# Altium footprint library WL-SMRW.PcbLib: 5 footprints
Each footprint in its own frame and in the unit in brackets; x right, y up, seen from the top. Pads: shape width x height; smd on the part's side, far side on the other; paste and mask are expansions set on the pad; w line width, h text height; cw(c..) or ccw(c..) is an arc to the next point about the centre after c.
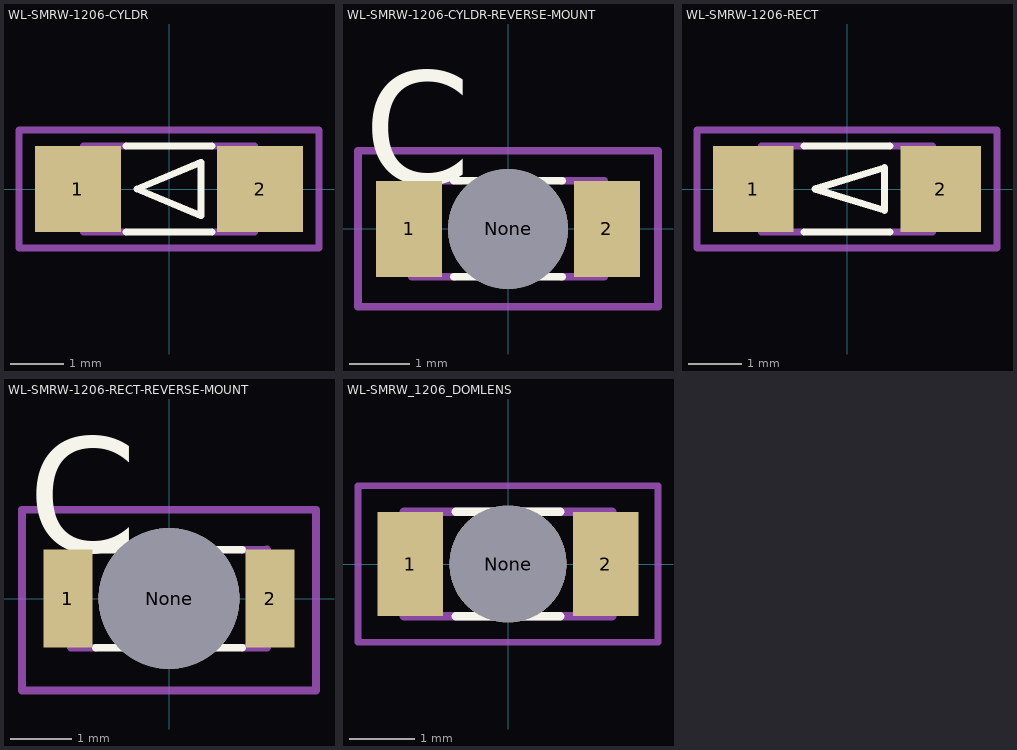
[diagram p0: the footprints below, top view; thin cyan lines are the x and y axes]

## WL-SMRW-1206-CYLDR [mm]
pads (2):
  rect 1.6x1.6 smd: 1(-1.7,0) 2(1.7,0)
Top Overlay:
  lines w0.127: -0.8,-0.8 0.8,-0.8 ; -0.8,0.8 0.8,0.8 ; -0.6,0 0.6,0.5 0.6,-0.5 -0.6,0
Mechanical 1:
  lines w0.127: -0.8,-0.8 -1.6,-0.8 -1.6,0.8 -0.8,0.8 ; 0.8,-0.8 1.6,-0.8 1.6,0.8 0.8,0.8 ; -2.8,-1.1 -2.8,1.1 2.8,1.1 2.8,-1.1 -2.8,-1.1

## WL-SMRW-1206-CYLDR-REVERSE-MOUNT [mm]
pads (3):
  rect 1.1x1.6 smd: 1(-1.65,0) 2(1.65,0)
  round 2 hole 2 unplated: None(0,0)
Top Overlay:
  lines w0.127: -0.9,-0.8 0.9,-0.8 ; -0.9,0.8 0.9,0.8
  text "C" at -2.404,0.752 h1.88
Mechanical 1:
  lines w0.127: -0.9,-0.8 -1.6,-0.8 -1.6,0.8 -0.8,0.8 ; 0.9,-0.8 1.6,-0.8 1.6,0.8 0.9,0.8 ; -2.5,-1.3 -2.5,1.3 2.5,1.3 2.5,-1.3 -2.5,-1.3

## WL-SMRW-1206-RECT [mm]
pads (2):
  rect 1.5x1.6 smd: 1(-1.75,0) 2(1.75,0)
Top Overlay:
  lines w0.127: -0.8,-0.8 0.8,-0.8 ; -0.8,0.8 0.8,0.8 ; -0.6,0 0.7,-0.4 0.7,0.4 -0.6,0
Mechanical 1:
  lines w0.127: -0.8,-0.8 -1.6,-0.8 -1.6,0.8 -0.8,0.8 ; 0.8,-0.8 1.6,-0.8 1.6,0.8 0.8,0.8 ; -2.8,-1.1 -2.8,1.1 2.8,1.1 2.8,-1.1 -2.8,-1.1

## WL-SMRW-1206-RECT-REVERSE-MOUNT [mm]
pads (3):
  rect 0.8x1.6 smd: 1(-1.65,0) 2(1.65,0)
  round 2.3 hole 2.3 unplated: None(0,0)
Top Overlay:
  lines w0.123: -1.2,-0.8 1.2,-0.8 ; -1.2,0.8 1.2,0.8
  text "C" at -2.308,0.753 h1.88
Mechanical 1:
  lines w0.123: -1.6,-0.8 -1.2,-0.8 ; -1.6,0.8 -1.2,0.8 ; 1.2,-0.8 1.6,-0.8 ; 1.2,0.8 1.6,0.8
  lines w0.127: -1.6,-0.8 -1.6,0.8 ; 1.6,-0.8 1.6,0.8 ; -2.4,-1.5 -2.4,1.45 2.4,1.45 2.4,-1.5 -2.4,-1.5

## WL-SMRW_1206_DOMLENS [mm]
pads (3):
  rect 1x1.6 smd: 1(-1.5,0) 2(1.5,0)
  round 1.8 hole 1.8 unplated: None(0,0)
Top Overlay:
  lines w0.127: -0.8,-0.8 0.8,-0.8 ; -0.8,0.8 0.8,0.8 ; -0.7,0 0.5,0.6 0.5,-0.6 -0.7,0
Mechanical 1:
  lines w0.1: -2.3,-1.2 2.3,-1.2 2.3,1.2 -2.3,1.2 -2.3,-1.2
  lines w0.127: -1.6,-0.8 1.6,-0.8 1.6,0.8 -1.6,0.8 -1.6,-0.8